# Altium footprint library ESDProtection.PcbLib: 2 footprints
Each footprint in its own frame and in the unit in brackets; x right, y up, seen from the top. Pads: shape width x height; smd on the part's side, far side on the other; paste and mask are expansions set on the pad; w line width, h text height; cw(c..) or ccw(c..) is an arc to the next point about the centre after c.
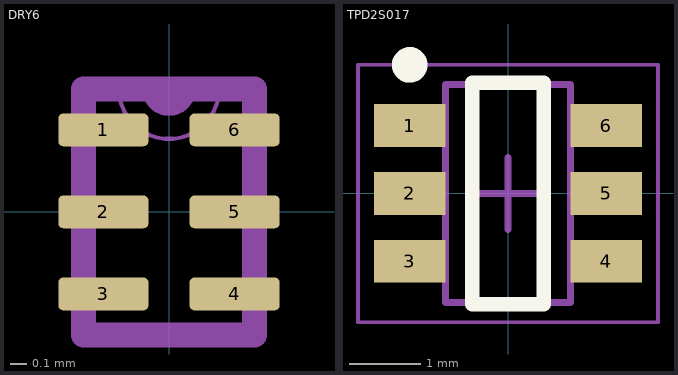
[diagram p0: the footprints below, top view; thin cyan lines are the x and y axes]

## DRY6 [mm]
pads (6):
  rrect30% 0.55x0.2 smd mask+0.051: 1(-0.4,0.5) 2(-0.4,0) 3(-0.4,-0.5) 4(0.4,-0.5) 5(0.4,0) 6(0.4,0.5)
Mechanical 1:
  lines w0.025: -0.305,0.749 ccw(c0,0.749) 0.305,0.749 ; -0.521,-0.749 0.521,-0.749 0.521,0.749 -0.521,0.749 -0.521,-0.749
Mechanical 16:
  lines w0.152: -0.087,0.749 ccw(c0,0.749) 0.087,0.749 ; -0.521,-0.749 -0.521,0.749 0.521,0.749 0.521,-0.749 -0.521,-0.749
3D body "TPD4S012.STEP": height 0.63, standoff -0.02, extent -0.525,-0.75 0.525,0.75

## TPD2S017 [mm]
height 1.45
pads (6):
  rect 1x0.6 smd: 1(-1.375,0.95) 2(-1.375,0) 3(-1.375,-0.95) 4(1.375,-0.95) 5(1.375,0) 6(1.375,0.95)
Top Overlay:
  circle w0.25: c-1.375,1.8 r0.125
  lines w0.2: -0.5,-1.55 -0.5,1.55 0.5,1.55 0.5,-1.55 -0.5,-1.55
Assembly Top:
  lines w0.1: -0.875,-1.525 0.875,-1.525 0.875,1.525 -0.875,1.525 -0.875,-1.525
Courtyard Top:
  lines w0.05: -2.1,-1.8 2.1,-1.8 2.1,1.8 -2.1,1.8 -2.1,-1.8
  lines w0.1: -0.5,0 0.5,0 ; 0,-0.5 0,0.5
3D body "TPD2S017.step": height 1.45, standoff 0, extent -1.5,-1.525 1.5,1.525